# EAGLE library part LM2842 (library personal)
100/300/600 mA Input Step-Down DC/DC Regulator in Thin SOT-23 The LM2840, LM2841 and LM2842 are PWM DC/DC buck (step-down) regulators. With a wide input range from 4.5V-42V, they are suitable for a wide range of applications such as power conditioning from unregulated sources. They feature a low RDSON (0.9? typical) internal switch for maximum efficiency (85% typical). Operating frequency is fixed at 550 kHz (X version) and 1.25 MHz (Y version) allowing the use of small external components while still being able to have low output voltage ripple. Soft-start can be implemented using the shutdown pin with an external RC circuit allowing the user to tailor the soft-start time to a specific application. The LM2840 is optimized for up to 100 mA, the LM2841 for 300 mA and the LM2842 is optimized for up to 600 mA load currents. They all have a 0.765V nominal feedback voltage. Additional features include: thermal shutdown, VIN under-voltage lockout, and gate drive under-voltage lockout. The LM2840, LM2841 and LM2842 are available in a low profile TSOT-6L package
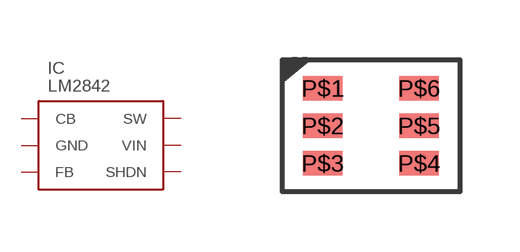
[diagram p1: symbol with the pads of TSOT-6; footprint TSOT-6]

Designator prefix IC

## LM2842  [TSOT-6]
P$1  CB  pas
P$2  GND  pas
P$3  FB  pas
P$4  SHDN  pas
P$5  VIN  pas
P$6  SW  pas

## Footprint TSOT-6 (pad centres in mm)
smd 0.991 x 0.61: P$1 0,0.94; P$2 0,0; P$3 0,-0.94; P$4 2.413,-0.94; P$5 2.413,0; P$6 2.413,0.94